# Altium footprint library Male_Header_2x2_2.54mm.PcbLib: 1 footprints
Each footprint in its own frame and in the unit in brackets; x right, y up, seen from the top. Pads: shape width x height; smd on the part's side, far side on the other; paste and mask are expansions set on the pad; w line width, h text height; cw(c..) or ccw(c..) is an arc to the next point about the centre after c.
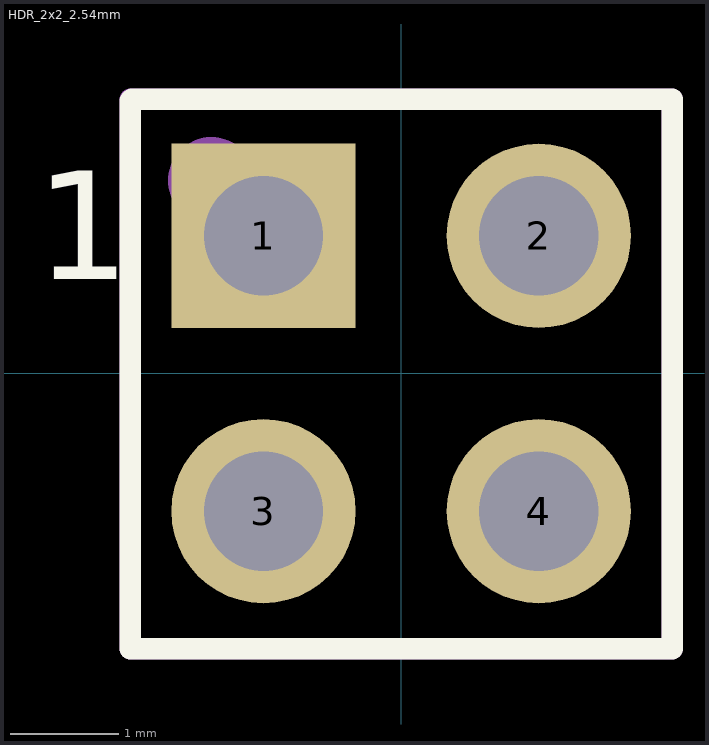
[diagram p0: the footprint, top view; thin cyan lines are the x and y axes]

## HDR_2x2_2.54mm [mm]
pads (4):
  rect 1.7x1.7 hole 1.1: 1(-1.27,1.27)
  round 1.7 hole 1.1: 2(1.27,1.27) 3(-1.27,-1.27) 4(1.27,-1.27)
Top Overlay:
  lines w0.2: -0.62,2.53 2.5,2.53 2.5,-2.54 -2.5,-2.54 -2.5,2.515 -2.485,2.53 0.65,2.53
  text "1" at -3.37,0.87 h1
Mechanical 2:
  circle w0.6: c-1.75,1.78 r0.1
  lines w0.2: -2.5,-2.54 -2.5,2.53 2.5,2.53 2.5,-2.54 -2.5,-2.54
  text ".Designator" at 0.508,-1.27 h1.52
3D body "961204-6404-XX.stp": height 8, standoff -3.3, extent -2.58,-2.505 2.5,2.495